# EAGLE library part HDMI-A (library Connector)
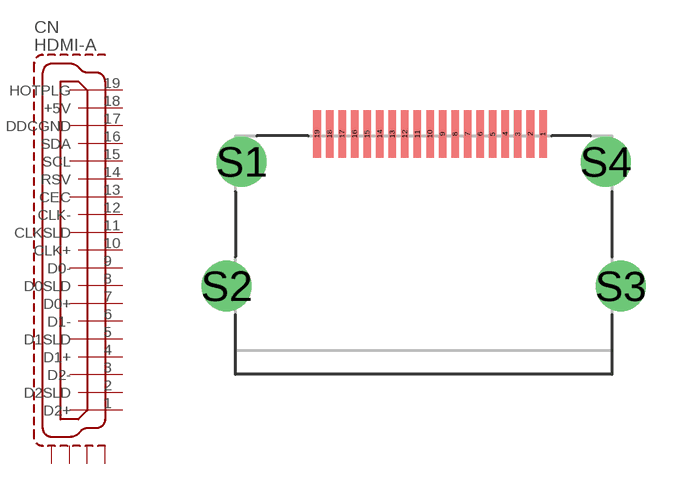
[diagram p5: symbol with the pads of HDMI-A; footprint HDMI-A]

Designator prefix CN

## HDMI-A  [HDMI-A]
1  D2+  pas
2  D2SLD  pas
3  D2-  pas
4  D1+  pas
5  D1SLD  pas
6  D1-  pas
7  D0+  pas
8  D0SLD  pas
9  D0-  pas
10  CLK+  pas
11  CLKSLD  pas
12  CLK-  pas
13  CEC  pas
14  RSV  pas
15  SCL  pas
16  SDA  pas
17  DDCGND  pas
18  +5V  pas
19  HOTPLG  pas
S1  S1  pas
S2  S2  pas
S3  S3  pas
S4  S4  pas

## Footprint HDMI-A (pad centres in mm)
smd 0.3 x 1.9: 1 4.75,1.1; 2 4.25,1.1; 3 3.75,1.1; 4 3.25,1.1; 5 2.75,1.1; 6 2.25,1.1; 7 1.75,1.1; 8 1.25,1.1; 9 0.75,1.1; 10 0.25,1.1; 11 -0.25,1.1; 12 -0.75,1.1; 13 -1.25,1.1; 14 -1.75,1.1; 15 -2.25,1.1; 16 -2.75,1.1; 17 -3.25,1.1; 18 -3.75,1.1; 19 -4.25,1.1
drill 1.3 pad 2: S1 -7.25,0; S2 -7.85,-4.95; S3 7.85,-4.95; S4 7.25,0